# Altium integrated library Celestial Library.IntLib: 439 symbols (part 16 of 20)

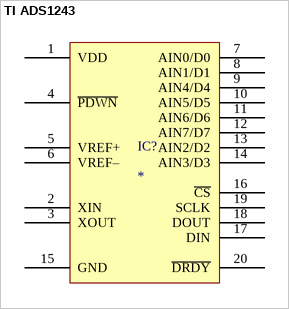
[diagram p345: symbol TI ADS1243]

## TI ADS1243
designator IC?
pins: 1 VDD, 2 XIN, 3 XOUT, 4 ~{PDWN}, 5 VREF+, 6 VREF–, 7 AIN0/D0, 8 AIN1/D1, 9 AIN4/D4, 10 AIN5/D5, 11 AIN6/D6, 12 AIN7/D7, 13 AIN2/D2, 14 AIN3/D3, 15 GND, 16 ~{CS}, 17 DIN, 18 DOUT, 19 SCLK, 20 ~{DRDY}


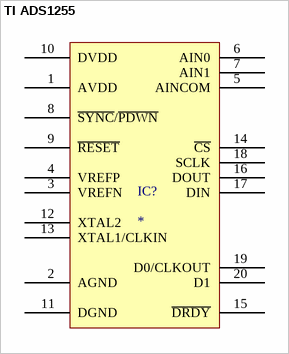
[diagram p346: symbol TI ADS1255]

## TI ADS1255
designator IC?
pins: 1 AVDD, 2 AGND, 3 VREFN, 4 VREFP, 5 AINCOM, 6 AIN0, 7 AIN1, 8 ~{SYNC}/~{PDWN}, 9 ~{RESET}, 10 DVDD, 11 DGND, 12 XTAL2, 13 XTAL1/CLKIN, 14 ~{CS}, 15 ~{DRDY}, 16 DOUT, 17 DIN, 18 SCLK, 19 D0/CLKOUT, 20 D1


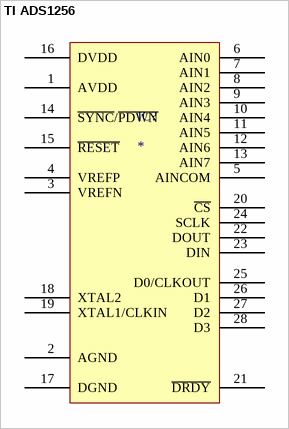
[diagram p347: symbol TI ADS1256]

## TI ADS1256
designator IC?
pins: 1 AVDD, 2 AGND, 3 VREFN, 4 VREFP, 5 AINCOM, 6 AIN0, 7 AIN1, 8 AIN2, 9 AIN3, 10 AIN4, 11 AIN5, 12 AIN6, 13 AIN7, 14 ~{SYNC}/~{PDWN}, 15 ~{RESET}, 16 DVDD, 17 DGND, 18 XTAL2, 19 XTAL1/CLKIN, 20 ~{CS}, 21 ~{DRDY}, 22 DOUT, 23 DIN, 24 SCLK, 25 D0/CLKOUT, 26 D1, 27 D2, 28 D3


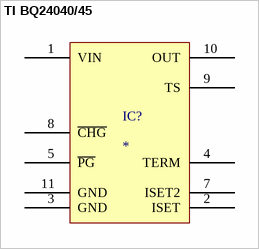
[diagram p348: symbol TI BQ24040/45]

## TI BQ24040/45
designator IC?
pins: 1 VIN, 2 ISET, 3 GND, 4 TERM, 5 ~{PG}, 7 ISET2, 8 ~{CHG}, 9 TS, 10 OUT, 11 GND


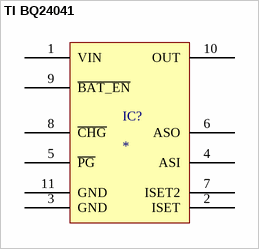
[diagram p349: symbol TI BQ24041]

## TI BQ24041
designator IC?
pins: 1 VIN, 2 ISET, 3 GND, 4 ASI, 5 ~{PG}, 6 ASO, 7 ISET2, 8 ~{CHG}, 9 ~{BAT_EN}, 10 OUT, 11 GND


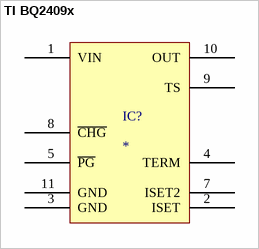
[diagram p350: symbol TI BQ2409x]

## TI BQ2409x
designator IC?
pins: 1 VIN, 2 ISET, 3 GND, 4 TERM, 5 ~{PG}, 7 ISET2, 8 ~{CHG}, 9 TS, 10 OUT, 11 GND


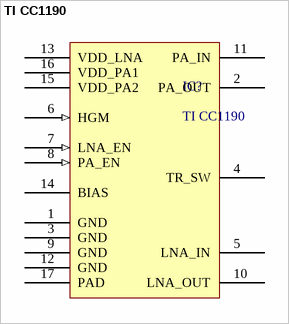
[diagram p351: symbol TI CC1190]

## TI CC1190
designator IC?
850-950MHz RF Front end
pins: 1 GND "Desc1", 2 PA_OUT "Desc1", 3 GND "Desc1", 4 TR_SW "Desc1", 5 LNA_IN "Desc1", 6 HGM (in) "Desc1", 7 LNA_EN (in) "Desc1", 8 PA_EN (in) "Desc1", 9 GND "Desc1", 10 LNA_OUT "Desc1", 11 PA_IN "Desc1", 12 GND "Desc1", 13 VDD_LNA "Desc1", 14 BIAS "Desc1", 15 VDD_PA2 "Desc1", 16 VDD_PA1 "Desc1", 17 PAD "Desc1"


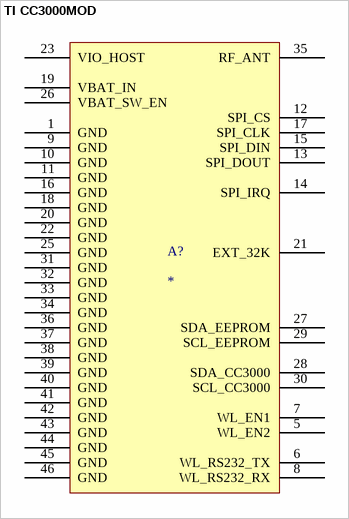
[diagram p352: symbol TI CC3000MOD]

## TI CC3000MOD
designator A?
pins: 1 GND, 5 WL_EN2, 6 WL_RS232_TX, 7 WL_EN1, 8 WL_RS232_RX, 9 GND, 10 GND, 11 GND, 12 SPI_CS, 13 SPI_DOUT, 14 SPI_IRQ, 15 SPI_DIN, 16 GND, 17 SPI_CLK, 18 GND, 19 VBAT_IN, 20 GND, 21 EXT_32K, 22 GND, 23 VIO_HOST, 25 GND, 26 VBAT_SW_EN, 27 SDA_EEPROM, 28 SDA_CC3000, 29 SCL_EEPROM, 30 SCL_CC3000, 31 GND, 32 GND, 33 GND, 34 GND, 35 RF_ANT, 36 GND, 37 GND, 38 GND, 39 GND, 40 GND, 41 GND, 42 GND, 43 GND, 44 GND, 45 GND, 46 GND, GND 40 hidden to Passive


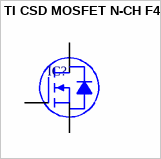
[diagram p353: symbol TI CSD MOSFET N-CH F4]

## TI CSD MOSFET N-CH F4
designator IC?
pins: 1 G, 2 S, 3 D


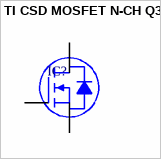
[diagram p354: symbol TI CSD MOSFET N-CH Q3]

## TI CSD MOSFET N-CH Q3
designator IC?
pins: 1 S, 2 S, 3 S, 4 G, 5 D, 6 D, 7 D, 8 D


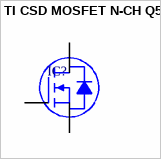
[diagram p355: symbol TI CSD MOSFET N-CH Q5]

## TI CSD MOSFET N-CH Q5
designator IC?
pins: 1 S, 2 S, 3 S, 4 G, 5 D, 6 D, 7 D, 8 D


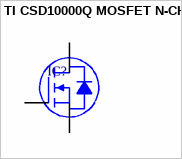
[diagram p356: symbol TI CSD10000Q MOSFET N-CH]

## TI CSD10000Q MOSFET N-CH
designator IC?
pins: 1 S, 2 S, 3 S, 4 G, 5 D, 6 D, 7 D, 8 D


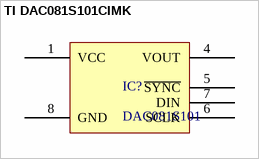
[diagram p357: symbol TI DAC081S101CIMK]

## TI DAC081S101CIMK
designator IC?, comment DAC081S101
DAC081S101 8-Bit Micro Power Digital-to-Analog Converter with Rail-to-Rail Output
pins: 1 VCC, 4 VOUT, 5 ~{SYNC}, 6 SCLK, 7 DIN, 8 GND


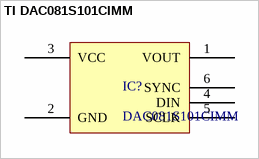
[diagram p358: symbol TI DAC081S101CIMM]

## TI DAC081S101CIMM
designator IC?, comment DAC081S101CIMM
DAC081S101 8-Bit Micro Power Digital-to-Analog Converter with Rail-to-Rail Output
pins: 1 VOUT, 2 GND, 3 VCC, 4 DIN, 5 SCLK, 6 SYNC


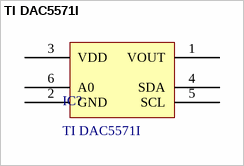
[diagram p359: symbol TI DAC5571I]

## TI DAC5571I
designator IC?
+2.7 V to +5.5 V, I2C INTERFACE, VOLTAGE OUTPUT,  8-BIT DIGITAL-TO-ANALOG CONVERTER
pins: 1 VOUT, 2 GND, 3 VDD, 4 SDA, 5 SCL, 6 A0


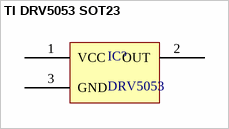
[diagram p360: symbol TI DRV5053 SOT23]

## TI DRV5053 SOT23
designator IC?, comment DRV5053
pins: 1 VCC, 2 OUT, 3 GND


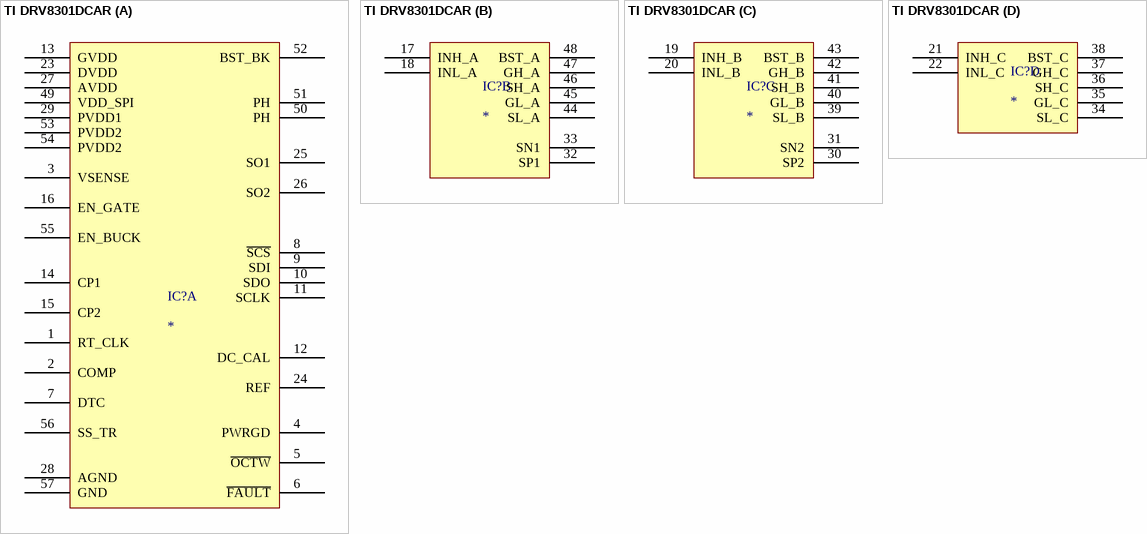
[diagram p361: symbol TI DRV8301DCAR]

## TI DRV8301DCAR
designator IC?
part A pins: 1 RT_CLK, 2 COMP, 3 VSENSE, 4 PWRGD, 5 ~{OCTW}, 6 ~{FAULT}, 7 DTC, 8 ~{SCS}, 9 SDI, 10 SDO, 11 SCLK, 12 DC_CAL, 13 GVDD, 14 CP1, 15 CP2, 16 EN_GATE, 23 DVDD, 24 REF, 25 SO1, 26 SO2, 27 AVDD, 28 AGND, 29 PVDD1, 49 VDD_SPI, 50 PH, 51 PH, 52 BST_BK, 53 PVDD2, 54 PVDD2, 55 EN_BUCK, 56 SS_TR, 57 GND
part B pins: 17 INH_A, 18 INL_A, 32 SP1, 33 SN1, 44 SL_A, 45 GL_A, 46 SH_A, 47 GH_A, 48 BST_A
part C pins: 19 INH_B, 20 INL_B, 30 SP2, 31 SN2, 39 SL_B, 40 GL_B, 41 SH_B, 42 GH_B, 43 BST_B
part D pins: 21 INH_C, 22 INL_C, 34 SL_C, 35 GL_C, 36 SH_C, 37 GH_C, 38 BST_C


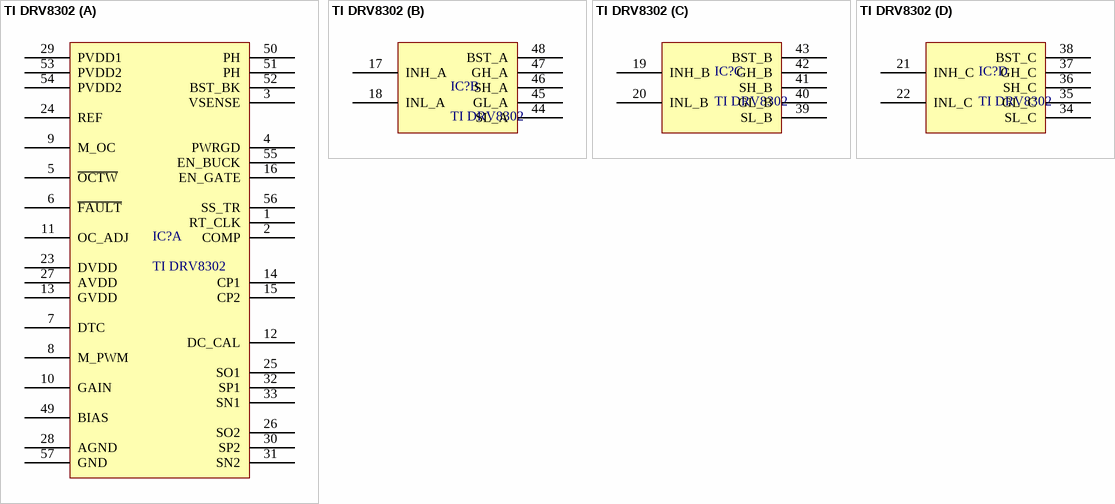
[diagram p362: symbol TI DRV8302]

## TI DRV8302
designator IC?
Three Phase Pre-Driver with Dual Current Shunt Amplifiers and Buck Regulator-Hardware Controlled
part A pins: 1 RT_CLK, 2 COMP, 3 VSENSE, 4 PWRGD, 5 ~{OCTW}, 6 ~{FAULT}, 7 DTC, 8 M_PWM, 9 M_OC, 10 GAIN, 11 OC_ADJ, 12 DC_CAL, 13 GVDD, 14 CP1, 15 CP2, 16 EN_GATE, 23 DVDD, 24 REF, 25 SO1, 26 SO2, 27 AVDD, 28 AGND, 29 PVDD1, 30 SP2, 31 SN2, 32 SP1, 33 SN1, 49 BIAS, 50 PH, 51 PH, 52 BST_BK, 53 PVDD2, 54 PVDD2, 55 EN_BUCK, 56 SS_TR, 57 GND
part B pins: 17 INH_A, 18 INL_A, 44 SL_A, 45 GL_A, 46 SH_A, 47 GH_A, 48 BST_A
part C pins: 19 INH_B, 20 INL_B, 39 SL_B, 40 GL_B, 41 SH_B, 42 GH_B, 43 BST_B
part D pins: 21 INH_C, 22 INL_C, 34 SL_C, 35 GL_C, 36 SH_C, 37 GH_C, 38 BST_C


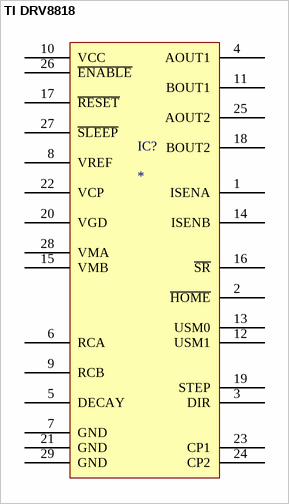
[diagram p363: symbol TI DRV8818]

## TI DRV8818
designator IC?
pins: 1 ISENA, 2 ~{HOME}, 3 DIR, 4 AOUT1, 5 DECAY, 6 RCA, 7 GND, 8 VREF, 9 RCB, 10 VCC, 11 BOUT1, 12 USM1, 13 USM0, 14 ISENB, 15 VMB, 16 ~{SR}, 17 ~{RESET}, 18 BOUT2, 19 STEP, 20 VGD, 21 GND, 22 VCP, 23 CP1, 24 CP2, 25 AOUT2, 26 ~{ENABLE}, 27 ~{SLEEP}, 28 VMA, 29 GND


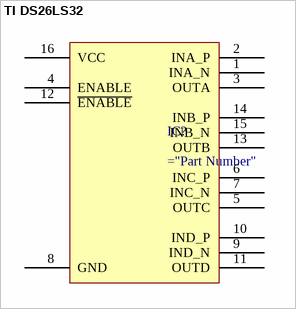
[diagram p364: symbol TI DS26LS32]

## TI DS26LS32
designator IC?
pins: 1 INA_N, 2 INA_P, 3 OUTA, 4 ENABLE, 5 OUTC, 6 INC_P, 7 INC_N, 8 GND, 9 IND_N, 10 IND_P, 11 OUTD, 12 ~{ENABLE}, 13 OUTB, 14 INB_P, 15 INB_N, 16 VCC


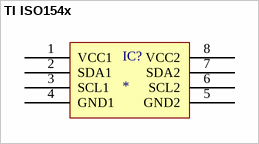
[diagram p365: symbol TI ISO154x]

## TI ISO154x
designator IC?
pins: 1 VCC1, 2 SDA1, 3 SCL1, 4 GND1, 5 GND2, 6 SCL2, 7 SDA2, 8 VCC2


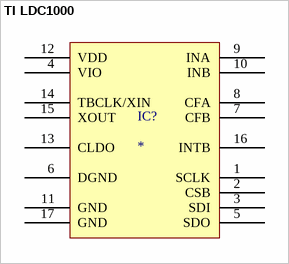
[diagram p366: symbol TI LDC1000]

## TI LDC1000
designator IC?
pins: 1 SCLK, 2 CSB, 3 SDI, 4 VIO, 5 SDO, 6 DGND, 7 CFB, 8 CFA, 9 INA, 10 INB, 11 GND, 12 VDD, 13 CLDO, 14 TBCLK/XIN, 15 XOUT, 16 INTB, 17 GND


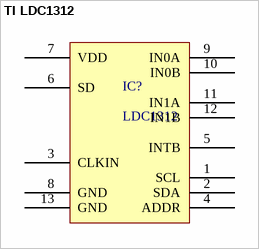
[diagram p367: symbol TI LDC1312]

## TI LDC1312
designator IC?, comment LDC1312
pins: 1 SCL, 2 SDA, 3 CLKIN, 4 ADDR, 5 INTB, 6 SD, 7 VDD, 8 GND, 9 IN0A, 10 IN0B, 11 IN1A, 12 IN1B, 13 GND
